# Altium footprint library Sensors & MEMS.PcbLib: 48 footprints (part 1 of 3)
Each footprint in its own frame and in the unit in brackets; x right, y up, seen from the top. Pads: shape width x height; smd on the part's side, far side on the other; paste and mask are expansions set on the pad; w line width, h text height; cw(c..) or ccw(c..) is an arc to the next point about the centre after c.
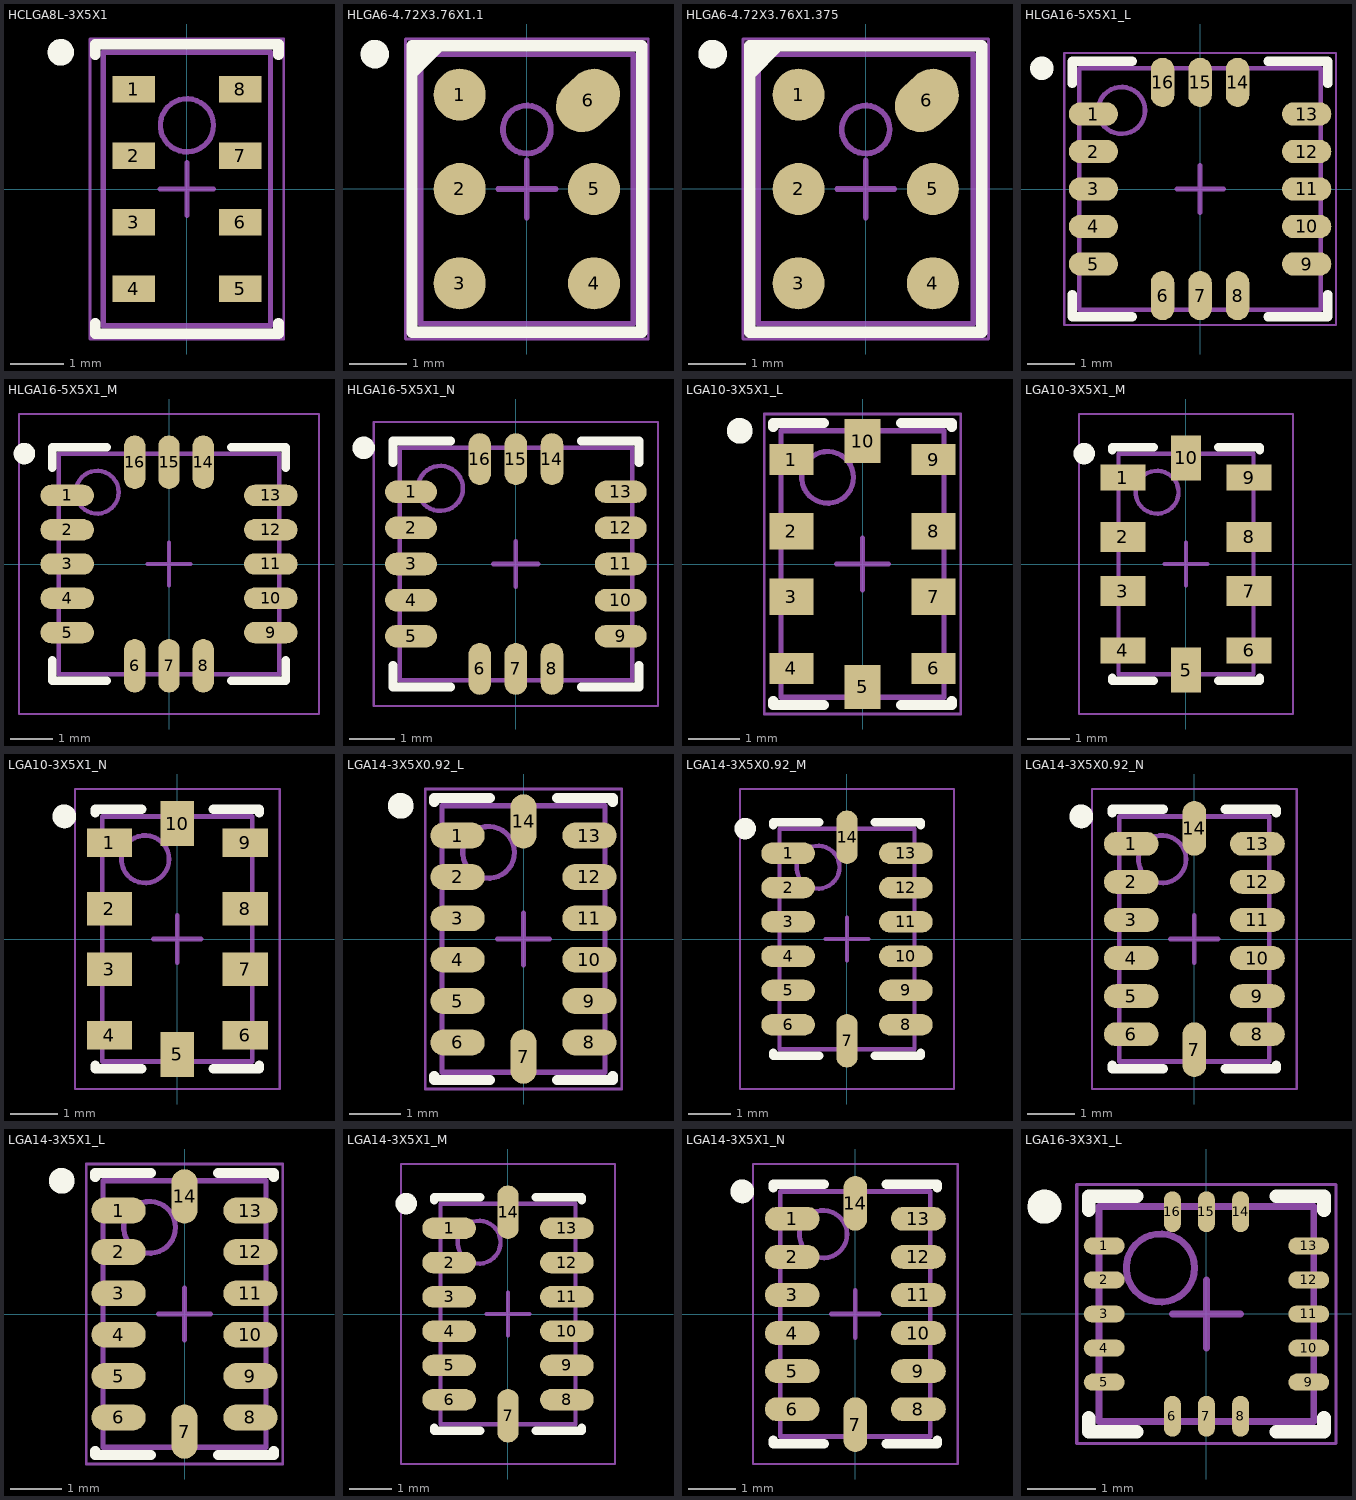
[diagram p0: the footprints below, top view; thin cyan lines are the x and y axes]

## HCLGA8L-3X5X1 [mm] "SON, 8-Leads, Body 3x5mm, Pitch 1.25mm"
height 1.1
pads (8):
  rect 0.8x0.5 smd paste-0.25 mask+0.051: 1(-1,1.875) 2(-1,0.625) 3(-1,-0.625) 4(-1,-1.875) 5(1,-1.875) 6(1,-0.625) 7(1,0.625) 8(1,1.875)
Top Overlay:
  circle w0.25: c-2.375,2.575 r0.125
  lines w0.2: -1.725,-2.525 -1.725,-2.725 1.725,-2.725 1.725,-2.525 ; -1.725,2.525 -1.725,2.725 1.725,2.725 1.725,2.525
Top Paste:
  rectangle: -1.5,1.625 -0.7,2.125
  region: 1.5,2.125 0.7,2.125 0.7,1.625 1.5,1.625
  rectangle: -1.5,0.375 -0.7,0.875
  rectangle: -1.5,-0.875 -0.7,-0.375
  rectangle: -1.5,-2.125 -0.7,-1.625
  region: 1.5,-1.625 0.7,-1.625 0.7,-2.125 1.5,-2.125
  region: 1.5,-0.375 0.7,-0.375 0.7,-0.875 1.5,-0.875
  region: 1.5,0.875 0.7,0.875 0.7,0.375 1.5,0.375
Mechanical 13:
  circle w0.1: c0,1.2 r0.5
  lines w0.1: -1.575,-2.575 1.575,-2.575 1.575,2.575 -1.575,2.575 -1.575,-2.575
Mechanical 15:
  lines w0.05: -1.825,-2.825 1.825,-2.825 1.825,2.825 -1.825,2.825 -1.825,-2.825
  lines w0.1: -0.5,0 0.5,0 ; 0,-0.5 0,0.5
3D body: height 1.1, standoff 0, extent -0.509,0.691 0.509,1.709
3D body: height 1.1, standoff 0, extent -1.575,-2.575 1.575,2.575

## HLGA6-4.72X3.76X1.1 [mm] "LGA, 6-Leads, Body 4.72x3.72mm, Pitch 1.65mm"
height 1.1
pads (6):
  round 0.91 smd: 1(-1.175,1.65) 2(-1.175,0) 3(-1.175,-1.65) 4(1.175,-1.65) 5(1.175,0)
  oval 0.91x1.2 smd rot 133.5: 6(1.07,1.55)
Top Overlay:
  circle w0.25: c-2.66,2.36 r0.125
  region: -1.524,2.51 -2.01,2.024 -2.01,2.51
  lines w0.2: -2.01,2.024 -1.524,2.51 ; -2.01,-2.51 2.01,-2.51 2.01,2.51 -2.01,2.51 -2.01,-2.51
Mechanical 13:
  circle w0.1: c0,1.04 r0.42
  lines w0.1: -1.86,-2.36 1.86,-2.36 1.86,2.36 -1.86,2.36 -1.86,-2.36
Mechanical 15:
  lines w0.05: -2.125,-2.625 2.125,-2.625 2.125,2.625 -2.125,2.625 -2.125,-2.625
  lines w0.1: -0.5,0 0.5,0 ; 0,-0.5 0,0.5
3D body: height 1.1, standoff 0, extent -1.86,-2.36 1.86,2.36
3D body: height 1.1, standoff 0, extent -0.428,0.612 0.428,1.468

## HLGA6-4.72X3.76X1.375 [mm] "LGA, 6-Leads, Body 4.72x3.76mm, Pitch 1.65mm"
height 1.38
pads (6):
  round 0.91 smd: 1(-1.175,1.65) 2(-1.175,0) 3(-1.175,-1.65) 4(1.175,-1.65) 5(1.175,0)
  oval 0.91x1.2 smd rot 133.5: 6(1.07,1.55)
Top Overlay:
  circle w0.25: c-2.68,2.36 r0.125
  region: -1.524,2.51 -2.03,2.004 -2.03,2.51
  lines w0.2: -2.03,2.004 -1.524,2.51 ; -2.03,-2.51 2.03,-2.51 2.03,2.51 -2.03,2.51 -2.03,-2.51
Mechanical 13:
  circle w0.1: c0,1.04 r0.42
  lines w0.1: -1.88,-2.36 1.88,-2.36 1.88,2.36 -1.88,2.36 -1.88,-2.36
Mechanical 15:
  lines w0.05: -2.15,-2.625 2.15,-2.625 2.15,2.625 -2.15,2.625 -2.15,-2.625
  lines w0.1: -0.5,0 0.5,0 ; 0,-0.5 0,0.5
3D body: height 1.38, standoff 0, extent -0.428,0.612 0.428,1.468
3D body: height 1.38, standoff 0, extent -1.88,-2.36 1.88,2.36

## HLGA16-5X5X1_L [mm] "PQFN, 16-Leads, Body 5x5mm, Pitch 0.8mm, IPC High Density"
height 1
pads (16):
  oval 1.05x0.5 smd: 1(-2.275,1.6) 2(-2.275,0.8) 3(-2.275,0) 4(-2.275,-0.8) 5(-2.275,-1.6) 9(2.275,-1.6) 10(2.275,-0.8) 11(2.275,0) 12(2.275,0.8) 13(2.275,1.6)
  oval 0.5x1.05 smd: 6(-0.8,-2.275) 7(0,-2.275) 8(0.8,-2.275) 14(0.8,2.275) 15(0,2.275) 16(-0.8,2.275)
Top Overlay:
  circle w0.25: c-3.375,2.575 r0.125
  lines w0.2: -2.725,-2.25 -2.725,-2.725 -1.45,-2.725 ; -2.725,2.25 -2.725,2.725 -1.45,2.725 ; 1.45,-2.725 2.725,-2.725 2.725,-2.25 ; 1.45,2.725 2.725,2.725 2.725,2.25
Mechanical 13:
  circle w0.1: c-1.675,1.675 r0.5
  lines w0.1: -2.575,-2.575 -2.575,2.575 2.575,2.575 2.575,-2.575 -2.575,-2.575
Mechanical 15:
  lines w0.05: -2.9,-2.9 -2.9,2.9 2.9,2.9 2.9,-2.9 -2.9,-2.9
  lines w0.1: -0.5,0 0.5,0 ; 0,-0.5 0,0.5
3D body: height 1, standoff 0, extent -2.575,-2.575 2.575,2.575

## HLGA16-5X5X1_M [mm] "PQFN, 16-Leads, Body 5x5mm, Pitch 0.8mm, IPC Low Density"
height 1
pads (16):
  oval 1.25x0.5 smd: 1(-2.375,1.6) 2(-2.375,0.8) 3(-2.375,0) 4(-2.375,-0.8) 5(-2.375,-1.6) 9(2.375,-1.6) 10(2.375,-0.8) 11(2.375,0) 12(2.375,0.8) 13(2.375,1.6)
  oval 0.5x1.25 smd: 6(-0.8,-2.375) 7(0,-2.375) 8(0.8,-2.375) 14(0.8,2.375) 15(0,2.375) 16(-0.8,2.375)
Top Overlay:
  circle w0.25: c-3.375,2.575 r0.125
  lines w0.2: -2.725,-2.25 -2.725,-2.725 -1.45,-2.725 ; -2.725,2.25 -2.725,2.725 -1.45,2.725 ; 1.45,-2.725 2.725,-2.725 2.725,-2.25 ; 1.45,2.725 2.725,2.725 2.725,2.25
Mechanical 13:
  circle w0.1: c-1.675,1.675 r0.5
  lines w0.1: -2.575,-2.575 -2.575,2.575 2.575,2.575 2.575,-2.575 -2.575,-2.575
Mechanical 15:
  lines w0.05: -3.5,-3.5 -3.5,3.5 3.5,3.5 3.5,-3.5 -3.5,-3.5
  lines w0.1: -0.5,0 0.5,0 ; 0,-0.5 0,0.5
3D body: height 1, standoff 0, extent -2.575,-2.575 2.575,2.575

## HLGA16-5X5X1_N [mm] "PQFN, 16-Leads, Body 5x5mm, Pitch 0.8mm, IPC Medium Density"
height 1
pads (16):
  oval 1.15x0.5 smd: 1(-2.325,1.6) 2(-2.325,0.8) 3(-2.325,0) 4(-2.325,-0.8) 5(-2.325,-1.6) 9(2.325,-1.6) 10(2.325,-0.8) 11(2.325,0) 12(2.325,0.8) 13(2.325,1.6)
  oval 0.5x1.15 smd: 6(-0.8,-2.325) 7(0,-2.325) 8(0.8,-2.325) 14(0.8,2.325) 15(0,2.325) 16(-0.8,2.325)
Top Overlay:
  circle w0.25: c-3.375,2.575 r0.125
  lines w0.2: -2.725,-2.25 -2.725,-2.725 -1.45,-2.725 ; -2.725,2.25 -2.725,2.725 -1.45,2.725 ; 1.45,-2.725 2.725,-2.725 2.725,-2.25 ; 1.45,2.725 2.725,2.725 2.725,2.25
Mechanical 13:
  circle w0.1: c-1.675,1.675 r0.5
  lines w0.1: -2.575,-2.575 2.575,-2.575 2.575,2.575 -2.575,2.575 -2.575,-2.575
Mechanical 15:
  lines w0.05: -3.15,-3.15 3.15,-3.15 3.15,3.15 -3.15,3.15 -3.15,-3.15
  lines w0.1: -0.5,0 0.5,0 ; 0,-0.5 0,0.5
3D body: height 1, standoff 0, extent -2.575,-2.575 2.575,2.575

## LGA10-3X5X1_L [mm] "PQFN, 10-Leads, Body 3x5mm, Pitch 1.27/1.382mm, IPC High Density"
height 1.1
pads (10):
  rect 0.85x0.6 smd: 1(-1.375,2.017) 4(-1.375,-2.017) 6(1.375,-2.017) 9(1.375,2.017)
  rect 0.85x0.7 smd: 2(-1.375,0.635) 3(-1.375,-0.635) 7(1.375,-0.635) 8(1.375,0.635)
  rect 0.7x0.85 smd: 5(0,-2.375) 10(0,2.375)
Top Overlay:
  circle w0.25: c-2.375,2.575 r0.125
  lines w0.2: -1.725,-2.655 -1.725,-2.725 -0.75,-2.725 ; -1.725,2.655 -1.725,2.725 -0.75,2.725 ; 0.75,-2.725 1.725,-2.725 1.725,-2.655 ; 0.75,2.725 1.725,2.725 1.725,2.655
Mechanical 13:
  circle w0.1: c-0.675,1.675 r0.5
  lines w0.1: -1.575,-2.575 -1.575,2.575 1.575,2.575 1.575,-2.575 -1.575,-2.575
Mechanical 15:
  lines w0.05: -1.9,-2.9 -1.9,2.9 1.9,2.9 1.9,-2.9 -1.9,-2.9
  lines w0.1: -0.5,0 0.5,0 ; 0,-0.5 0,0.5
3D body: height 1.1, standoff 0, extent -1.575,-2.575 1.575,2.575

## LGA10-3X5X1_M [mm] "PQFN, 10-Leads, Body 3x5mm, Pitch 1.27/1.382mm, IPC Low Density"
height 1.1
pads (10):
  rect 1.05x0.6 smd: 1(-1.475,2.017) 4(-1.475,-2.017) 6(1.475,-2.017) 9(1.475,2.017)
  rect 1.05x0.7 smd: 2(-1.475,0.635) 3(-1.475,-0.635) 7(1.475,-0.635) 8(1.475,0.635)
  rect 0.7x1.05 smd: 5(0,-2.475) 10(0,2.475)
Top Overlay:
  circle w0.25: c-2.375,2.575 r0.125
  lines w0.2: -1.725,-2.655 -1.725,-2.725 -0.75,-2.725 ; -1.725,2.655 -1.725,2.725 -0.75,2.725 ; 0.75,-2.725 1.725,-2.725 1.725,-2.655 ; 0.75,2.725 1.725,2.725 1.725,2.655
Mechanical 13:
  circle w0.1: c-0.675,1.675 r0.5
  lines w0.1: -1.575,-2.575 1.575,-2.575 1.575,2.575 -1.575,2.575 -1.575,-2.575
Mechanical 15:
  lines w0.05: -2.5,-3.5 2.5,-3.5 2.5,3.5 -2.5,3.5 -2.5,-3.5
  lines w0.1: -0.5,0 0.5,0 ; 0,-0.5 0,0.5
3D body: height 1.1, standoff 0, extent -1.575,-2.575 1.575,2.575

## LGA10-3X5X1_N [mm] "PQFN, 10-Leads, Body 3x5mm, Pitch 1.27/1.382mm, IPC Medium Density"
height 1.1
pads (10):
  rect 0.95x0.6 smd: 1(-1.425,2.017) 4(-1.425,-2.017) 6(1.425,-2.017) 9(1.425,2.017)
  rect 0.95x0.7 smd: 2(-1.425,0.635) 3(-1.425,-0.635) 7(1.425,-0.635) 8(1.425,0.635)
  rect 0.7x0.95 smd: 5(0,-2.425) 10(0,2.425)
Top Overlay:
  circle w0.25: c-2.375,2.575 r0.125
  lines w0.2: -1.725,-2.655 -1.725,-2.725 -0.75,-2.725 ; -1.725,2.655 -1.725,2.725 -0.75,2.725 ; 0.75,-2.725 1.725,-2.725 1.725,-2.655 ; 0.75,2.725 1.725,2.725 1.725,2.655
Mechanical 13:
  circle w0.1: c-0.675,1.675 r0.5
  lines w0.1: -1.575,-2.575 1.575,-2.575 1.575,2.575 -1.575,2.575 -1.575,-2.575
Mechanical 15:
  lines w0.05: -2.15,-3.15 2.15,-3.15 2.15,3.15 -2.15,3.15 -2.15,-3.15
  lines w0.1: -0.5,0 0.5,0 ; 0,-0.5 0,0.5
3D body: height 1.1, standoff 0, extent -1.575,-2.575 1.575,2.575

## LGA14-3X5X0.92_L [mm] "PQFN, 14-Leads, Body 3x5mm, Pitch 0.8mm, IPC High Density"
height 1
pads (14):
  oval 1.05x0.5 smd: 1(-1.275,2) 2(-1.275,1.2) 3(-1.275,0.4) 4(-1.275,-0.4) 5(-1.275,-1.2) 6(-1.275,-2) 8(1.275,-2) 9(1.275,-1.2) 10(1.275,-0.4) 11(1.275,0.4) 12(1.275,1.2) 13(1.275,2)
  oval 0.5x1.05 smd: 7(0,-2.275) 14(0,2.275)
Top Overlay:
  circle w0.25: c-2.375,2.575 r0.125
  lines w0.2: -1.725,-2.65 -1.725,-2.725 -0.65,-2.725 ; -1.725,2.65 -1.725,2.725 -0.65,2.725 ; 0.65,-2.725 1.725,-2.725 1.725,-2.65 ; 0.65,2.725 1.725,2.725 1.725,2.65
Mechanical 13:
  circle w0.1: c-0.675,1.675 r0.5
  lines w0.1: -1.575,-2.575 1.575,-2.575 1.575,2.575 -1.575,2.575 -1.575,-2.575
Mechanical 15:
  lines w0.05: -1.9,-2.9 1.9,-2.9 1.9,2.9 -1.9,2.9 -1.9,-2.9
  lines w0.1: -0.5,0 0.5,0 ; 0,-0.5 0,0.5
3D body: height 1, standoff 0, extent -1.575,-2.575 1.575,2.575

## LGA14-3X5X0.92_M [mm] "PQFN, 14-Leads, Body 3x5mm, Pitch 0.8mm, IPC Low Density"
height 1
pads (14):
  oval 1.25x0.5 smd: 1(-1.375,2) 2(-1.375,1.2) 3(-1.375,0.4) 4(-1.375,-0.4) 5(-1.375,-1.2) 6(-1.375,-2) 8(1.375,-2) 9(1.375,-1.2) 10(1.375,-0.4) 11(1.375,0.4) 12(1.375,1.2) 13(1.375,2)
  oval 0.5x1.25 smd: 7(0,-2.375) 14(0,2.375)
Top Overlay:
  circle w0.25: c-2.375,2.575 r0.125
  lines w0.2: -1.725,-2.65 -1.725,-2.725 -0.65,-2.725 ; -1.725,2.65 -1.725,2.725 -0.65,2.725 ; 0.65,-2.725 1.725,-2.725 1.725,-2.65 ; 0.65,2.725 1.725,2.725 1.725,2.65
Mechanical 13:
  circle w0.1: c-0.675,1.675 r0.5
  lines w0.1: -1.575,-2.575 -1.575,2.575 1.575,2.575 1.575,-2.575 -1.575,-2.575
Mechanical 15:
  lines w0.05: -2.5,-3.5 -2.5,3.5 2.5,3.5 2.5,-3.5 -2.5,-3.5
  lines w0.1: -0.5,0 0.5,0 ; 0,-0.5 0,0.5
3D body: height 1, standoff 0, extent -1.575,-2.575 1.575,2.575

## LGA14-3X5X0.92_N [mm] "PQFN, 14-Leads, Body 3x5mm, Pitch 0.8mm, IPC Medium Density"
height 1
pads (14):
  oval 1.15x0.5 smd: 1(-1.325,2) 2(-1.325,1.2) 3(-1.325,0.4) 4(-1.325,-0.4) 5(-1.325,-1.2) 6(-1.325,-2) 8(1.325,-2) 9(1.325,-1.2) 10(1.325,-0.4) 11(1.325,0.4) 12(1.325,1.2) 13(1.325,2)
  oval 0.5x1.15 smd: 7(0,-2.325) 14(0,2.325)
Top Overlay:
  circle w0.25: c-2.375,2.575 r0.125
  lines w0.2: -1.725,-2.65 -1.725,-2.725 -0.65,-2.725 ; -1.725,2.65 -1.725,2.725 -0.65,2.725 ; 0.65,-2.725 1.725,-2.725 1.725,-2.65 ; 0.65,2.725 1.725,2.725 1.725,2.65
Mechanical 13:
  circle w0.1: c-0.675,1.675 r0.5
  lines w0.1: -1.575,-2.575 1.575,-2.575 1.575,2.575 -1.575,2.575 -1.575,-2.575
Mechanical 15:
  lines w0.05: -2.15,-3.15 2.15,-3.15 2.15,3.15 -2.15,3.15 -2.15,-3.15
  lines w0.1: -0.5,0 0.5,0 ; 0,-0.5 0,0.5
3D body: height 1, standoff 0, extent -1.575,-2.575 1.575,2.575

## LGA14-3X5X1_L [mm] "PQFN, 14-Leads, Body 3x5mm, Pitch 0.8mm, IPC High Density"
height 1
pads (14):
  oval 1.05x0.5 smd: 1(-1.275,2) 2(-1.275,1.2) 3(-1.275,0.4) 4(-1.275,-0.4) 5(-1.275,-1.2) 6(-1.275,-2) 8(1.275,-2) 9(1.275,-1.2) 10(1.275,-0.4) 11(1.275,0.4) 12(1.275,1.2) 13(1.275,2)
  oval 0.5x1.05 smd: 7(0,-2.275) 14(0,2.275)
Top Overlay:
  circle w0.25: c-2.375,2.575 r0.125
  lines w0.2: -1.725,-2.65 -1.725,-2.725 -0.65,-2.725 ; -1.725,2.65 -1.725,2.725 -0.65,2.725 ; 0.65,-2.725 1.725,-2.725 1.725,-2.65 ; 0.65,2.725 1.725,2.725 1.725,2.65
Mechanical 13:
  circle w0.1: c-0.675,1.675 r0.5
  lines w0.1: -1.575,-2.575 -1.575,2.575 1.575,2.575 1.575,-2.575 -1.575,-2.575
Mechanical 15:
  lines w0.05: -1.9,-2.9 -1.9,2.9 1.9,2.9 1.9,-2.9 -1.9,-2.9
  lines w0.1: -0.5,0 0.5,0 ; 0,-0.5 0,0.5
3D body: height 1, standoff 0, extent -1.575,-2.575 1.575,2.575

## LGA14-3X5X1_M [mm] "PQFN, 14-Leads, Body 3x5mm, Pitch 0.8mm, IPC Low Density"
height 1
pads (14):
  oval 1.25x0.5 smd: 1(-1.375,2) 2(-1.375,1.2) 3(-1.375,0.4) 4(-1.375,-0.4) 5(-1.375,-1.2) 6(-1.375,-2) 8(1.375,-2) 9(1.375,-1.2) 10(1.375,-0.4) 11(1.375,0.4) 12(1.375,1.2) 13(1.375,2)
  oval 0.5x1.25 smd: 7(0,-2.375) 14(0,2.375)
Top Overlay:
  circle w0.25: c-2.375,2.575 r0.125
  lines w0.2: -1.725,-2.65 -1.725,-2.725 -0.65,-2.725 ; -1.725,2.65 -1.725,2.725 -0.65,2.725 ; 0.65,-2.725 1.725,-2.725 1.725,-2.65 ; 0.65,2.725 1.725,2.725 1.725,2.65
Mechanical 13:
  circle w0.1: c-0.675,1.675 r0.5
  lines w0.1: -1.575,-2.575 1.575,-2.575 1.575,2.575 -1.575,2.575 -1.575,-2.575
Mechanical 15:
  lines w0.05: -2.5,-3.5 2.5,-3.5 2.5,3.5 -2.5,3.5 -2.5,-3.5
  lines w0.1: -0.5,0 0.5,0 ; 0,-0.5 0,0.5
3D body: height 1, standoff 0, extent -1.575,-2.575 1.575,2.575

## LGA14-3X5X1_N [mm] "PQFN, 14-Leads, Body 3x5mm, Pitch 0.8mm, IPC Medium Density"
height 1
pads (14):
  oval 1.15x0.5 smd: 1(-1.325,2) 2(-1.325,1.2) 3(-1.325,0.4) 4(-1.325,-0.4) 5(-1.325,-1.2) 6(-1.325,-2) 8(1.325,-2) 9(1.325,-1.2) 10(1.325,-0.4) 11(1.325,0.4) 12(1.325,1.2) 13(1.325,2)
  oval 0.5x1.15 smd: 7(0,-2.325) 14(0,2.325)
Top Overlay:
  circle w0.25: c-2.375,2.575 r0.125
  lines w0.2: -1.725,-2.65 -1.725,-2.725 -0.65,-2.725 ; -1.725,2.65 -1.725,2.725 -0.65,2.725 ; 0.65,-2.725 1.725,-2.725 1.725,-2.65 ; 0.65,2.725 1.725,2.725 1.725,2.65
Mechanical 13:
  circle w0.1: c-0.675,1.675 r0.5
  lines w0.1: -1.575,-2.575 -1.575,2.575 1.575,2.575 1.575,-2.575 -1.575,-2.575
Mechanical 15:
  lines w0.05: -2.15,-3.15 -2.15,3.15 2.15,3.15 2.15,-3.15 -2.15,-3.15
  lines w0.1: -0.5,0 0.5,0 ; 0,-0.5 0,0.5
3D body: height 1, standoff 0, extent -1.575,-2.575 1.575,2.575

## LGA16-3X3X1_L [mm] "PQFN, 16-Leads, Body 3x3mm, Pitch 0.5mm, IPC High Density"
height 1
pads (16):
  oval 0.6x0.25 smd: 1(-1.5,1) 2(-1.5,0.5) 3(-1.5,0) 4(-1.5,-0.5) 5(-1.5,-1) 9(1.5,-1) 10(1.5,-0.5) 11(1.5,0) 12(1.5,0.5) 13(1.5,1)
  oval 0.25x0.6 smd: 6(-0.5,-1.5) 7(0,-1.5) 8(0.5,-1.5) 14(0.5,1.5) 15(0,1.5) 16(-0.5,1.5)
Top Overlay:
  circle w0.25: c-2.375,1.575 r0.125
  lines w0.2: -1.725,-1.525 -1.725,-1.725 -1.025,-1.725 ; -1.725,1.525 -1.725,1.725 -1.025,1.725 ; 1.025,-1.725 1.725,-1.725 1.725,-1.525 ; 1.025,1.725 1.725,1.725 1.725,1.525
Mechanical 13:
  circle w0.1: c-0.675,0.675 r0.5
  lines w0.1: -1.575,-1.575 1.575,-1.575 1.575,1.575 -1.575,1.575 -1.575,-1.575
Mechanical 15:
  lines w0.05: -1.9,-1.9 1.9,-1.9 1.9,1.9 -1.9,1.9 -1.9,-1.9
  lines w0.1: -0.5,0 0.5,0 ; 0,-0.5 0,0.5
3D body: height 1, standoff 0, extent -1.575,-1.575 1.575,1.575